# EAGLE library part NRF51822 (library OrlandoRonMod)
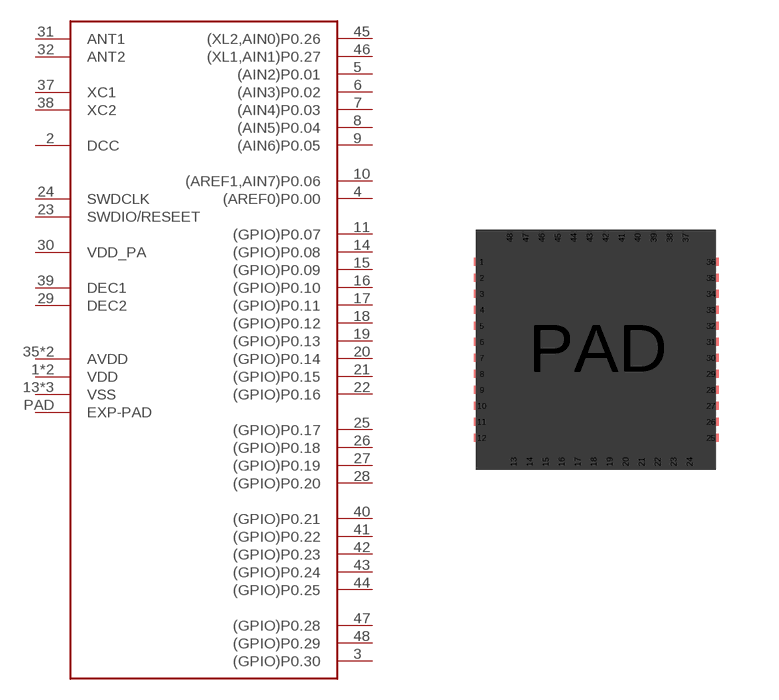
[diagram p20: symbol with the pads of 48-VFQFN-EXPOSED_PAD; footprint 48-VFQFN-EXPOSED_PAD]

Designator prefix -

## NRF51822  [48-VFQFN-EXPOSED_PAD]
1  VDD
2  DCC
3  (GPIO)P0.30
4  (AREF0)P0.00
5  (AIN2)P0.01
6  (AIN3)P0.02
7  (AIN4)P0.03
8  (AIN5)P0.04
9  (AIN6)P0.05
10  (AREF1,AIN7)P0.06
11  (GPIO)P0.07
12  VDD
13  VSS
14  (GPIO)P0.08
15  (GPIO)P0.09
16  (GPIO)P0.10
17  (GPIO)P0.11
18  (GPIO)P0.12
19  (GPIO)P0.13
20  (GPIO)P0.14
21  (GPIO)P0.15
22  (GPIO)P0.16
23  SWDIO/RESEET
24  SWDCLK
25  (GPIO)P0.17
26  (GPIO)P0.18
27  (GPIO)P0.19
28  (GPIO)P0.20
29  DEC2
30  VDD_PA
31  ANT1
32  ANT2
33  VSS
34  VSS
35  AVDD
36  AVDD
37  XC1
38  XC2
39  DEC1
40  (GPIO)P0.21
41  (GPIO)P0.22
42  (GPIO)P0.23
43  (GPIO)P0.24
44  (GPIO)P0.25
45  (XL2,AIN0)P0.26
46  (XL1,AIN1)P0.27
47  (GPIO)P0.28
48  (GPIO)P0.29
PAD  EXP-PAD

## Footprint 48-VFQFN-EXPOSED_PAD (pad centres in mm)
smd 0.4 x 0.2: 1 0.14,5.19; 2 0.14,4.79; 3 0.14,4.39; 4 0.14,3.99; 5 0.14,3.59; 6 0.14,3.19; 7 0.14,2.79; 8 0.14,2.39; 9 0.14,1.99; 10 0.14,1.59; 11 0.14,1.19; 12 0.14,0.79; 25 5.87,0.79; 26 5.87,1.19; 27 5.87,1.59; 28 5.87,1.99; 29 5.87,2.39; 30 5.87,2.79; 31 5.87,3.19; 32 5.87,3.59; 33 5.87,3.99; 34 5.87,4.39; 35 5.87,4.79; 36 5.87,5.19
smd 0.2 x 0.4: 13 0.94,0.19; 14 1.34,0.19; 15 1.74,0.19; 16 2.14,0.19; 17 2.54,0.19; 18 2.94,0.19; 19 3.34,0.19; 20 3.74,0.19; 21 4.14,0.19; 22 4.54,0.19; 23 4.94,0.19; 24 5.34,0.19; 37 5.24,5.79; 38 4.84,5.79; 39 4.44,5.79; 40 4.04,5.79; 41 3.64,5.79; 42 3.24,5.79; 43 2.84,5.79; 44 2.44,5.79; 45 2.04,5.79; 46 1.64,5.79; 47 1.24,5.79; 48 0.84,5.79
smd 3.81 x 3.81: PAD 3.048,3.048